# Altium footprint library C2Sv0.1.PcbLib: 19 footprints (part 2 of 2)
Each footprint in its own frame and in the unit in brackets; x right, y up, seen from the top. Pads: shape width x height; smd on the part's side, far side on the other; paste and mask are expansions set on the pad; w line width, h text height; cw(c..) or ccw(c..) is an arc to the next point about the centre after c.
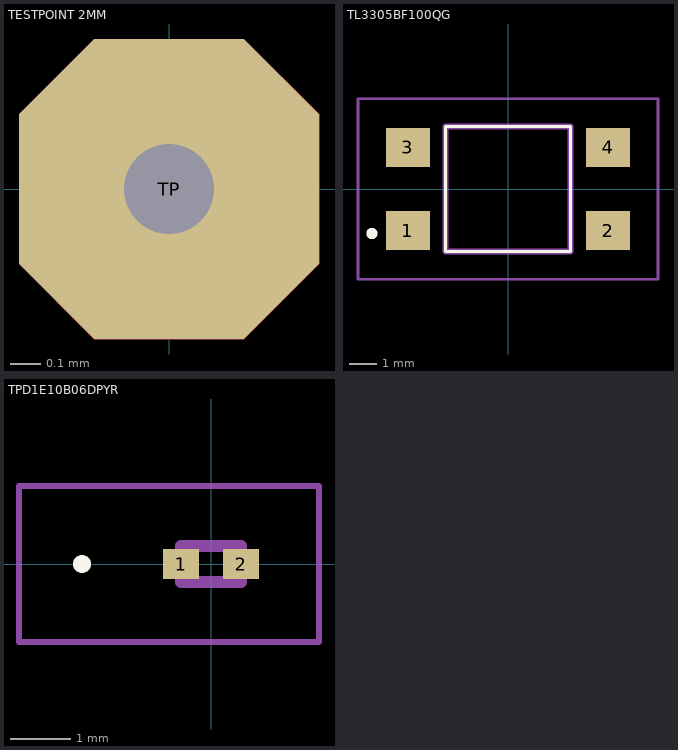
[diagram p1: the footprints below, top view; thin cyan lines are the x and y axes]

## TESTPOINT 2MM [mm]
pads (1):
  oct 1x1 hole 0.3: TP(0,0)
Top Layer:
  region: -0.25,-0.5 -0.5,-0.25 -0.5,0.25 -0.25,0.5 0.25,0.5 0.5,0.25 0.5,-0.25 0.25,-0.5
Bottom Layer:
  region: -0.25,-0.5 -0.5,-0.25 -0.5,0.25 -0.25,0.5 0.25,0.5 0.5,0.25 0.5,-0.25 0.25,-0.5

## TL3305BF100QG [mm]
pads (4):
  rect 1.6x1.4 smd: 1(-3.6,-1.5) 2(3.6,-1.5) 3(-3.6,1.5) 4(3.6,1.5)
Top Overlay:
  lines w0.1: -2.25,-2.25 2.25,-2.25 2.25,2.25 -2.25,2.25 -2.25,-2.25
  lines w0.2: -5,-1.6 cw(c-4.9,-1.6) -4.8,-1.6 cw(c-4.9,-1.6) -5,-1.6
Mechanical 13:
  lines w0.2: -2.25,-2.25 2.25,-2.25 2.25,2.25 -2.25,2.25 -2.25,-2.25
Mechanical 15:
  lines w0.1: -5.4,-3.25 5.4,-3.25 5.4,3.25 -5.4,3.25 -5.4,-3.25
3D body "TL3305BF100QG.stp": height 4.9, standoff -0.1, extent -3.75,-2.25 3.75,2.25

## TPD1E10B06DPYR [mm]
pads (2):
  rect 0.6x0.5 smd: 1(-0.5,0) 2(0.5,0)
Top Overlay:
  lines w0.2: -2.2,0 ccw(c-2.15,0) -2.1,0 ; -2.2,0 cw(c-2.15,0) -2.1,0 ; -2.2,0 ccw(c-2.15,0) -2.1,0
Mechanical 13:
  lines w0.2: -0.5,-0.3 -0.5,0.3 0.5,0.3 0.5,-0.3 -0.5,-0.3
Mechanical 15:
  lines w0.1: -3.2,-1.3 -3.2,1.3 1.8,1.3 1.8,-1.3 -3.2,-1.3
3D body "TPD1E10B06DPYR.stp": height 0.38, standoff 0, extent -0.5,-0.3 0.5,0.3